# Altium integrated library Holtek Semiconductor Encoder Decoder.IntLib: 38 symbols
Pins are listed as number, name and electrical type; pins without a type are passive.

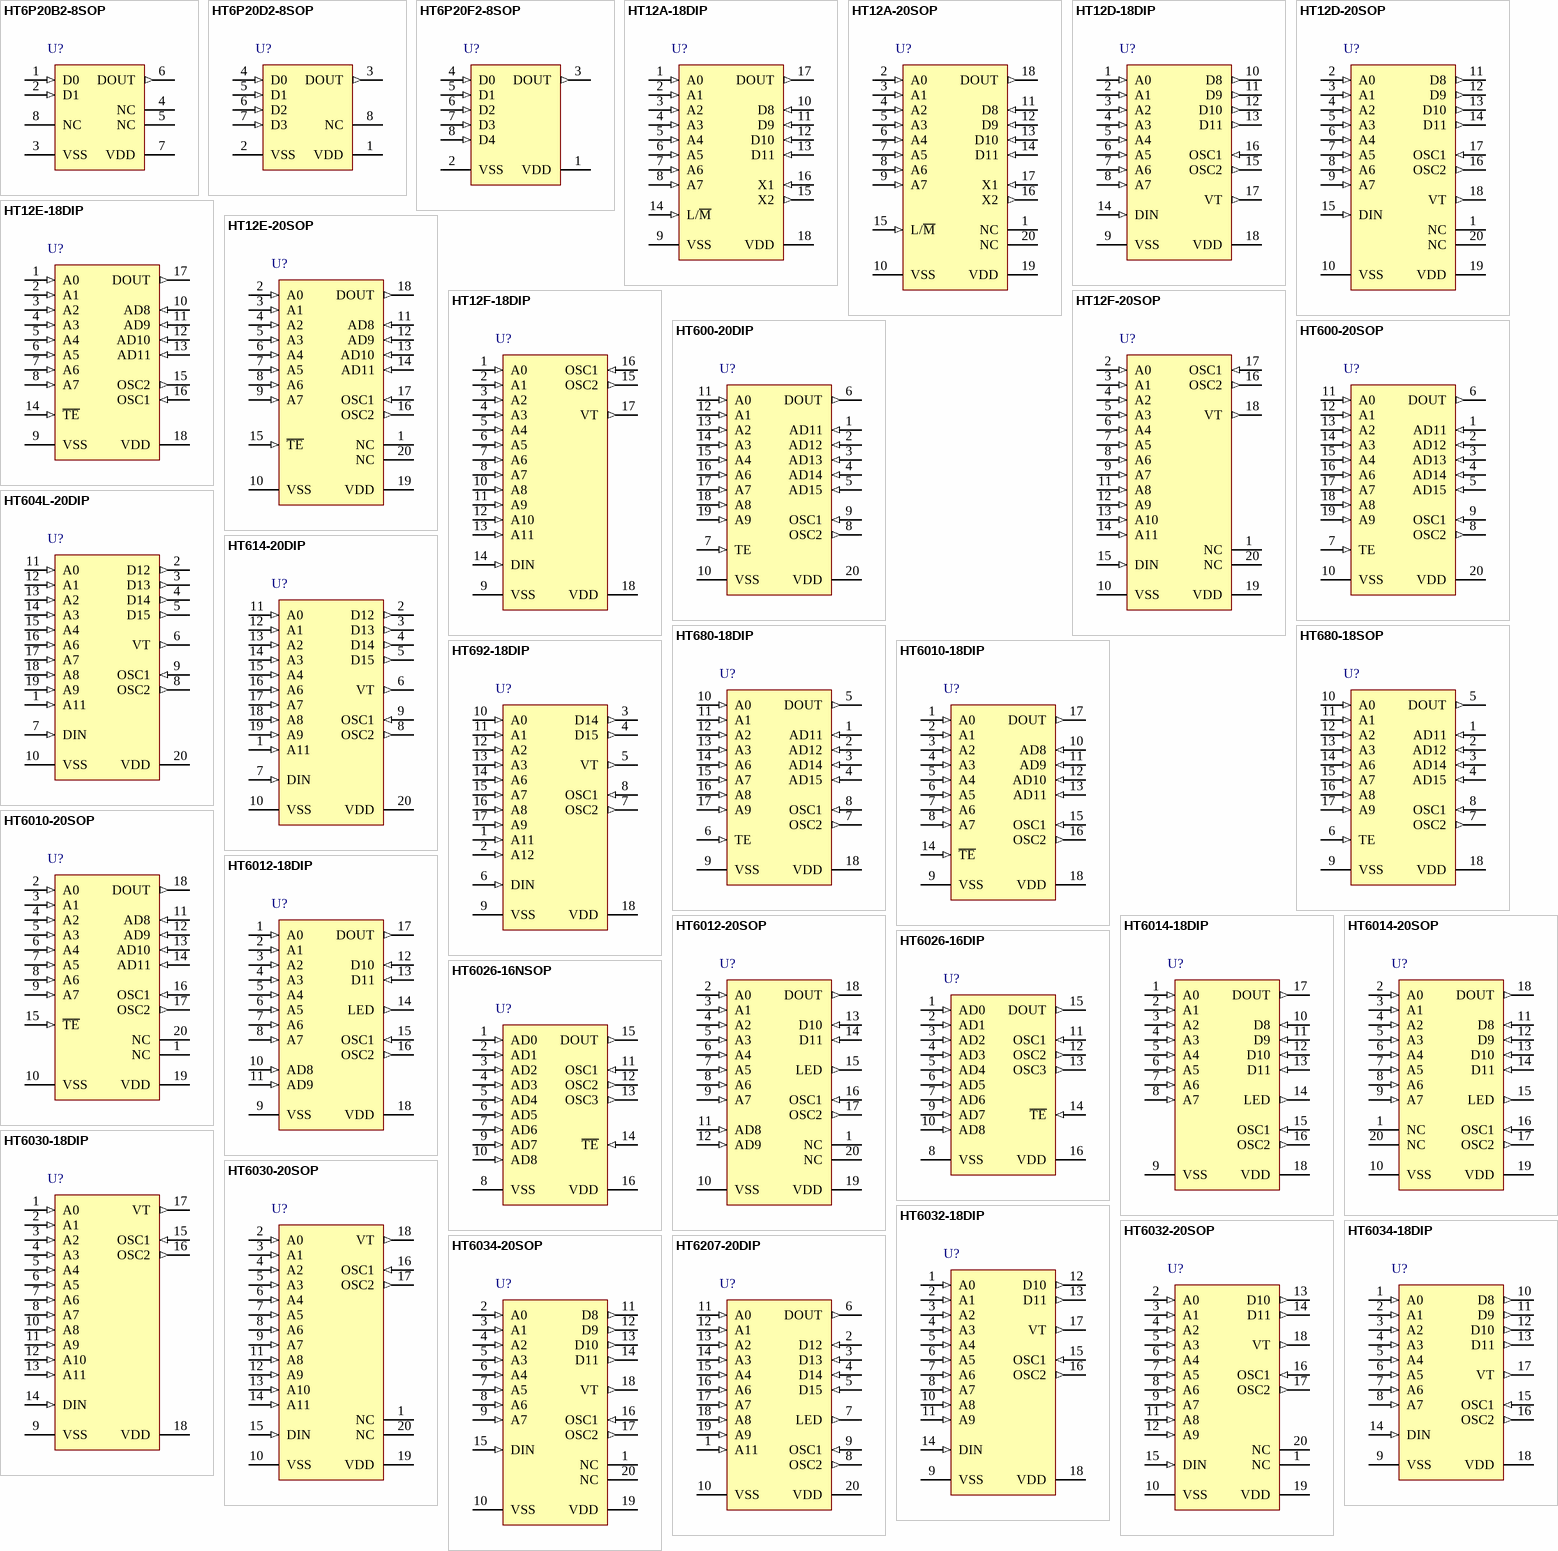
[diagram p0: symbols HT6P20B2-8SOP to HT6207-20DIP]

## HT6P20B2-8SOP
designator U?
Remote Control Encoder, 8-Pin SOP; DatasheetVersion: Rev1.00, Jun-2010; PackageVersion: 25/05/2010; PackageReference: 8SOP; PackageDescription: 8-Pin Small Outline Package, 150mil Wide, 1.27 mm Pitch; Code_JEDEC: MS-012; Code_IPC: SOIC127P600-8; ComponentLink1Description: Manufacturer URL; ComponentLink1URL: http://www.holtek.com/; ComponentLink2Description: Datasheet; ComponentLink2URL: http://www.holtek.com/pdf/consumer/6P20x2v100.pdf; ComponentLink3Description: Package Specification; ComponentLink3URL: http://www.holtek.com/english/literature/package.pdf
footprint 8SOP_N (SOIC, 8-Leads, Body 4.9x3.9mm, Pitch 1.27mm, IPC Medium Density)
footprint 8SOP_L (SOIC, 8-Leads, Body 4.9x3.9mm, Pitch 1.27mm, IPC High Density)
footprint 8SOP_M (SOIC, 8-Leads, Body 4.9x3.9mm, Pitch 1.27mm, IPC Low Density)
pins: 1 D0 (in), 2 D1 (in), 3 VSS (power), 4 NC, 5 NC, 6 DOUT (out), 7 VDD (power), 8 NC

## HT6P20D2-8SOP
designator U?
Remote Control Encoder, 8-Pin SOP; DatasheetVersion: Rev1.00, Jun-2010; PackageVersion: 25/05/2010; PackageReference: 8SOP; PackageDescription: 8-Pin Small Outline Package, 150mil Wide, 1.27 mm Pitch; Code_JEDEC: MS-012; Code_IPC: SOIC127P600-8; ComponentLink1Description: Manufacturer URL; ComponentLink1URL: http://www.holtek.com/; ComponentLink2Description: Datasheet; ComponentLink2URL: http://www.holtek.com/pdf/consumer/6P20x2v100.pdf; ComponentLink3Description: Package Specification; ComponentLink3URL: http://www.holtek.com/english/literature/package.pdf
footprint 8SOP_N (SOIC, 8-Leads, Body 4.9x3.9mm, Pitch 1.27mm, IPC Medium Density)
footprint 8SOP_L (SOIC, 8-Leads, Body 4.9x3.9mm, Pitch 1.27mm, IPC High Density)
footprint 8SOP_M (SOIC, 8-Leads, Body 4.9x3.9mm, Pitch 1.27mm, IPC Low Density)
pins: 1 VDD (power), 2 VSS (power), 3 DOUT (out), 4 D0 (in), 5 D1 (in), 6 D2 (in), 7 D3 (in), 8 NC

## HT6P20F2-8SOP
designator U?
Remote Control Encoder, 8-Pin SOP; DatasheetVersion: Rev1.00, Jun-2010; PackageVersion: 25/05/2010; PackageReference: 8SOP; PackageDescription: 8-Pin Small Outline Package, 150mil Wide, 1.27 mm Pitch; Code_JEDEC: MS-012; Code_IPC: SOIC127P600-8; ComponentLink1Description: Manufacturer URL; ComponentLink1URL: http://www.holtek.com/; ComponentLink2Description: Datasheet; ComponentLink2URL: http://www.holtek.com/pdf/consumer/6P20x2v100.pdf; ComponentLink3Description: Package Specification; ComponentLink3URL: http://www.holtek.com/english/literature/package.pdf
footprint 8SOP_N (SOIC, 8-Leads, Body 4.9x3.9mm, Pitch 1.27mm, IPC Medium Density)
footprint 8SOP_L (SOIC, 8-Leads, Body 4.9x3.9mm, Pitch 1.27mm, IPC High Density)
footprint 8SOP_M (SOIC, 8-Leads, Body 4.9x3.9mm, Pitch 1.27mm, IPC Low Density)
pins: 1 VDD (power), 2 VSS (power), 3 DOUT (out), 4 D0 (in), 5 D1 (in), 6 D2 (in), 7 D3 (in), 8 D4 (in)

## HT12A-18DIP
designator U?
212 Series of Encoders, 18-Pin DIP; DatasheetVersion: Rev1.20, Feb-2009; PackageVersion: 25/05/2010; PackageReference: 18DIP; PackageDescription: 18-Pin, Dual In-line Package, 300mil Width, Pitch 2.54 mm, Full Lead; Code_JEDEC: MS-001D; ComponentLink1Description: Manufacturer URL; ComponentLink1URL: http://www.holtek.com/; ComponentLink2Description: Datasheet; ComponentLink2URL: http://www.holtek.com/pdf/consumer/2_12ev120.pdf; ComponentLink3Description: Package Specification; ComponentLink3URL: http://www.holtek.com/english/literature/package.pdf
footprint 18DIP (DIP, 18-Leads, Row Spacing 7.62mm, Pitch 2.54mm, Body 22.9x6.6mm)
pins: 1 A0 (in), 2 A1 (in), 3 A2 (in), 4 A3 (in), 5 A4 (in), 6 A5 (in), 7 A6 (in), 8 A7 (in), 9 VSS (power), 10 D8 (in), 11 D9 (in), 12 D10 (in), 13 D11 (in), 14 L/~{M} (in), 15 X2 (out), 16 X1 (in), 17 DOUT (out), 18 VDD (power)

## HT12A-20SOP
designator U?
212 Series of Encoders, 20-Pin SOP; DatasheetVersion: Rev1.20, Feb-2009; PackageVersion: 25/05/2010; PackageReference: 20SOP; PackageDescription: 20-Pin Small Outline Package, 300mil Wide, 1.27 mm Pitch; Code_JEDEC: MS-013; Code_IPC: SOIC127P1030-20; ComponentLink1Description: Manufacturer URL; ComponentLink1URL: http://www.holtek.com/; ComponentLink2Description: Datasheet; ComponentLink2URL: http://www.holtek.com/pdf/consumer/2_12ev120.pdf; ComponentLink3Description: Package Specification; ComponentLink3URL: http://www.holtek.com/english/literature/package.pdf
footprint 20SOP_N (SOIC, 20-Leads, Body 12.8x7.1mm, Pitch 1.27mm, IPC Medium Density)
footprint 20SOP_L (SOIC, 20-Leads, Body 12.8x7.1mm, Pitch 1.27mm, IPC High Density)
footprint 20SOP_M (SOIC, 20-Leads, Body 12.8x7.1mm, Pitch 1.27mm, IPC Low Density)
pins: 1 NC, 2 A0 (in), 3 A1 (in), 4 A2 (in), 5 A3 (in), 6 A4 (in), 7 A5 (in), 8 A6 (in), 9 A7 (in), 10 VSS (power), 11 D8 (in), 12 D9 (in), 13 D10 (in), 14 D11 (in), 15 L/~{M} (in), 16 X2 (out), 17 X1 (in), 18 DOUT (out), 19 VDD (power), 20 NC

## HT12D-18DIP
designator U?
212 Series of Decoders, 18-Pin DIP; DatasheetVersion: Rev1.20, Feb-2009; PackageVersion: 25/05/2010; PackageReference: 18DIP; PackageDescription: 18-Pin, Dual In-line Package, 300mil Width, Pitch 2.54 mm, Full Lead; Code_JEDEC: MS-001D; ComponentLink1Description: Manufacturer URL; ComponentLink1URL: http://www.holtek.com/; ComponentLink2Description: Datasheet; ComponentLink2URL: http://www.holtek.com/pdf/consumer/2_12dv120.pdf; ComponentLink3Description: Package Specification; ComponentLink3URL: http://www.holtek.com/english/literature/package.pdf
footprint 18DIP (DIP, 18-Leads, Row Spacing 7.62mm, Pitch 2.54mm, Body 22.9x6.6mm)
pins: 1 A0 (in), 2 A1 (in), 3 A2 (in), 4 A3 (in), 5 A4 (in), 6 A5 (in), 7 A6 (in), 8 A7 (in), 9 VSS (power), 10 D8 (out), 11 D9 (out), 12 D10 (out), 13 D11 (out), 14 DIN (in), 15 OSC2 (out), 16 OSC1 (in), 17 VT (out), 18 VDD (power)

## HT12D-20SOP
designator U?
212 Series of Decoders, 20-Pin SOP; DatasheetVersion: Rev1.20, Feb-2009; PackageVersion: 25/05/2010; PackageReference: 20SOP; PackageDescription: 20-Pin Small Outline Package, 300mil Wide, 1.27 mm Pitch; Code_JEDEC: MS-013; Code_IPC: SOIC127P1030-20; ComponentLink1Description: Manufacturer URL; ComponentLink1URL: http://www.holtek.com/; ComponentLink2Description: Datasheet; ComponentLink2URL: http://www.holtek.com/pdf/consumer/2_12dv120.pdf; ComponentLink3Description: Package Specification; ComponentLink3URL: http://www.holtek.com/english/literature/package.pdf
footprint 20SOP_N (SOIC, 20-Leads, Body 12.8x7.1mm, Pitch 1.27mm, IPC Medium Density)
footprint 20SOP_L (SOIC, 20-Leads, Body 12.8x7.1mm, Pitch 1.27mm, IPC High Density)
footprint 20SOP_M (SOIC, 20-Leads, Body 12.8x7.1mm, Pitch 1.27mm, IPC Low Density)
pins: 1 NC, 2 A0 (in), 3 A1 (in), 4 A2 (in), 5 A3 (in), 6 A4 (in), 7 A5 (in), 8 A6 (in), 9 A7 (in), 10 VSS (power), 11 D8 (out), 12 D9 (out), 13 D10 (out), 14 D11 (out), 15 DIN (in), 16 OSC2 (out), 17 OSC1 (in), 18 VT (out), 19 VDD (power), 20 NC

## HT12E-18DIP
designator U?
212 Series of Encoders, 18-Pin DIP; DatasheetVersion: Rev1.20, Feb-2009; PackageVersion: 25/05/2010; PackageReference: 18DIP; PackageDescription: 18-Pin, Dual In-line Package, 300mil Width, Pitch 2.54 mm, Full Lead; Code_JEDEC: MS-001D; ComponentLink1Description: Manufacturer URL; ComponentLink1URL: http://www.holtek.com/; ComponentLink2Description: Datasheet; ComponentLink2URL: http://www.holtek.com/pdf/consumer/2_12ev120.pdf; ComponentLink3Description: Package Specification; ComponentLink3URL: http://www.holtek.com/english/literature/package.pdf
footprint 18DIP (DIP, 18-Leads, Row Spacing 7.62mm, Pitch 2.54mm, Body 22.9x6.6mm)
pins: 1 A0 (in), 2 A1 (in), 3 A2 (in), 4 A3 (in), 5 A4 (in), 6 A5 (in), 7 A6 (in), 8 A7 (in), 9 VSS (power), 10 AD8 (in), 11 AD9 (in), 12 AD10 (in), 13 AD11 (in), 14 ~{TE} (in), 15 OSC2 (out), 16 OSC1 (in), 17 DOUT (out), 18 VDD (power)

## HT12E-20SOP
designator U?
212 Series of Encoders, 20-Pin SOP; DatasheetVersion: Rev1.20, Feb-2009; PackageVersion: 25/05/2010; PackageReference: 20SOP; PackageDescription: 20-Pin Small Outline Package, 300mil Wide, 1.27 mm Pitch; Code_JEDEC: MS-013; Code_IPC: SOIC127P1030-20; ComponentLink1Description: Manufacturer URL; ComponentLink1URL: http://www.holtek.com/; ComponentLink2Description: Datasheet; ComponentLink2URL: http://www.holtek.com/pdf/consumer/2_12ev120.pdf; ComponentLink3Description: Package Specification; ComponentLink3URL: http://www.holtek.com/english/literature/package.pdf
footprint 20SOP_N (SOIC, 20-Leads, Body 12.8x7.1mm, Pitch 1.27mm, IPC Medium Density)
footprint 20SOP_L (SOIC, 20-Leads, Body 12.8x7.1mm, Pitch 1.27mm, IPC High Density)
footprint 20SOP_M (SOIC, 20-Leads, Body 12.8x7.1mm, Pitch 1.27mm, IPC Low Density)
pins: 1 NC, 2 A0 (in), 3 A1 (in), 4 A2 (in), 5 A3 (in), 6 A4 (in), 7 A5 (in), 8 A6 (in), 9 A7 (in), 10 VSS (power), 11 AD8 (in), 12 AD9 (in), 13 AD10 (in), 14 AD11 (in), 15 ~{TE} (in), 16 OSC2 (out), 17 OSC1 (in), 18 DOUT (out), 19 VDD (power), 20 NC

## HT12F-18DIP
designator U?
212 Series of Decoders, 18-Pin DIP; DatasheetVersion: Rev1.20, Feb-2009; PackageVersion: 25/05/2010; PackageReference: 18DIP; PackageDescription: 18-Pin, Dual In-line Package, 300mil Width, Pitch 2.54 mm, Full Lead; Code_JEDEC: MS-001D; ComponentLink1Description: Manufacturer URL; ComponentLink1URL: http://www.holtek.com/; ComponentLink2Description: Datasheet; ComponentLink2URL: http://www.holtek.com/pdf/consumer/2_12dv120.pdf; ComponentLink3Description: Package Specification; ComponentLink3URL: http://www.holtek.com/english/literature/package.pdf
footprint 18DIP (DIP, 18-Leads, Row Spacing 7.62mm, Pitch 2.54mm, Body 22.9x6.6mm)
pins: 1 A0 (in), 2 A1 (in), 3 A2 (in), 4 A3 (in), 5 A4 (in), 6 A5 (in), 7 A6 (in), 8 A7 (in), 9 VSS (power), 10 A8 (in), 11 A9 (in), 12 A10 (in), 13 A11 (in), 14 DIN (in), 15 OSC2 (out), 16 OSC1 (in), 17 VT (out), 18 VDD (power)

## HT12F-20SOP
designator U?
212 Series of Decoders, 20-Pin SOP; DatasheetVersion: Rev1.20, Feb-2009; PackageVersion: 25/05/2010; PackageReference: 20SOP; PackageDescription: 20-Pin Small Outline Package, 300mil Wide, 1.27 mm Pitch; Code_JEDEC: MS-013; Code_IPC: SOIC127P1030-20; ComponentLink1Description: Manufacturer URL; ComponentLink1URL: http://www.holtek.com/; ComponentLink2Description: Datasheet; ComponentLink2URL: http://www.holtek.com/pdf/consumer/2_12dv120.pdf; ComponentLink3Description: Package Specification; ComponentLink3URL: http://www.holtek.com/english/literature/package.pdf
footprint 20SOP_N (SOIC, 20-Leads, Body 12.8x7.1mm, Pitch 1.27mm, IPC Medium Density)
footprint 20SOP_L (SOIC, 20-Leads, Body 12.8x7.1mm, Pitch 1.27mm, IPC High Density)
footprint 20SOP_M (SOIC, 20-Leads, Body 12.8x7.1mm, Pitch 1.27mm, IPC Low Density)
pins: 1 NC, 2 A0 (in), 3 A1 (in), 4 A2 (in), 5 A3 (in), 6 A4 (in), 7 A5 (in), 8 A6 (in), 9 A7 (in), 10 VSS (power), 11 A8 (in), 12 A9 (in), 13 A10 (in), 14 A11 (in), 15 DIN (in), 16 OSC2 (out), 17 OSC1 (in), 18 VT (out), 19 VDD (power), 20 NC

## HT600-20DIP
designator U?
318 Series of Encoders, 20-Pin DIP; DatasheetVersion: Rev1.20, Feb-2009; PackageVersion: 25/05/2010; PackageReference: 20DIP; PackageDescription: 20-Pin, Dual In-line Package, 300mil Width, Pitch 2.54 mm, Full Lead; Code_JEDEC: MO-095A; ComponentLink1Description: Manufacturer URL; ComponentLink1URL: http://www.holtek.com/; ComponentLink2Description: Datasheet; ComponentLink2URL: http://www.holtek.com/pdf/consumer/3_18ev120.pdf; ComponentLink3Description: Package Specification; ComponentLink3URL: http://www.holtek.com/english/literature/package.pdf
footprint 20DIP (DIP, 20-Leads, Row Spacing 7.62mm, Pitch 2.54mm, Body 24.5x7.2mm)
pins: 1 AD11 (in), 2 AD12 (in), 3 AD13 (in), 4 AD14 (in), 5 AD15 (in), 6 DOUT (out), 7 TE (in), 8 OSC2 (out), 9 OSC1 (in), 10 VSS (power), 11 A0 (in), 12 A1 (in), 13 A2 (in), 14 A3 (in), 15 A4 (in), 16 A6 (in), 17 A7 (in), 18 A8 (in), 19 A9 (in), 20 VDD (power)

## HT600-20SOP
designator U?
318 Series of Encoders, 20-Pin SOP; DatasheetVersion: Rev1.20, Feb-2009; PackageVersion: 25/05/2010; PackageReference: 20SOP; PackageDescription: 20-Pin Small Outline Package, 300mil Wide, 1.27 mm Pitch; Code_JEDEC: MS-013; Code_IPC: SOIC127P1030-20; ComponentLink1Description: Manufacturer URL; ComponentLink1URL: http://www.holtek.com/; ComponentLink2Description: Datasheet; ComponentLink2URL: http://www.holtek.com/pdf/consumer/3_18ev120.pdf; ComponentLink3Description: Package Specification; ComponentLink3URL: http://www.holtek.com/english/literature/package.pdf
footprint 20SOP_N (SOIC, 20-Leads, Body 12.8x7.1mm, Pitch 1.27mm, IPC Medium Density)
footprint 20SOP_L (SOIC, 20-Leads, Body 12.8x7.1mm, Pitch 1.27mm, IPC High Density)
footprint 20SOP_M (SOIC, 20-Leads, Body 12.8x7.1mm, Pitch 1.27mm, IPC Low Density)
pins: 1 AD11 (in), 2 AD12 (in), 3 AD13 (in), 4 AD14 (in), 5 AD15 (in), 6 DOUT (out), 7 TE (in), 8 OSC2 (out), 9 OSC1 (in), 10 VSS (power), 11 A0 (in), 12 A1 (in), 13 A2 (in), 14 A3 (in), 15 A4 (in), 16 A6 (in), 17 A7 (in), 18 A8 (in), 19 A9 (in), 20 VDD (power)

## HT604L-20DIP
designator U?
318 Series of Decoders, 20-Pin DIP; DatasheetVersion: Rev1.20, Feb-2009; PackageVersion: 25/05/2010; PackageReference: 20DIP; PackageDescription: 20-Pin, Dual In-line Package, 300mil Width, Pitch 2.54 mm, Full Lead; Code_JEDEC: MO-095A; ComponentLink1Description: Manufacturer URL; ComponentLink1URL: http://www.holtek.com/; ComponentLink2Description: Datasheet; ComponentLink2URL: http://www.holtek.com/pdf/consumer/3_18dv120.pdf; ComponentLink3Description: Package Specification; ComponentLink3URL: http://www.holtek.com/english/literature/package.pdf
footprint 20DIP (DIP, 20-Leads, Row Spacing 7.62mm, Pitch 2.54mm, Body 24.5x7.2mm)
pins: 1 A11 (in), 2 D12 (out), 3 D13 (out), 4 D14 (out), 5 D15 (out), 6 VT (out), 7 DIN (in), 8 OSC2 (out), 9 OSC1 (in), 10 VSS (power), 11 A0 (in), 12 A1 (in), 13 A2 (in), 14 A3 (in), 15 A4 (in), 16 A6 (in), 17 A7 (in), 18 A8 (in), 19 A9 (in), 20 VDD (power)

## HT614-20DIP
designator U?
318 Series of Decoders, 20-Pin DIP; DatasheetVersion: Rev1.20, Feb-2009; PackageVersion: 25/05/2010; PackageReference: 20DIP; PackageDescription: 20-Pin, Dual In-line Package, 300mil Width, Pitch 2.54 mm, Full Lead; Code_JEDEC: MO-095A; ComponentLink1Description: Manufacturer URL; ComponentLink1URL: http://www.holtek.com/; ComponentLink2Description: Datasheet; ComponentLink2URL: http://www.holtek.com/pdf/consumer/3_18dv120.pdf; ComponentLink3Description: Package Specification; ComponentLink3URL: http://www.holtek.com/english/literature/package.pdf
footprint 20DIP (DIP, 20-Leads, Row Spacing 7.62mm, Pitch 2.54mm, Body 24.5x7.2mm)
pins: 1 A11 (in), 2 D12 (out), 3 D13 (out), 4 D14 (out), 5 D15 (out), 6 VT (out), 7 DIN (in), 8 OSC2 (out), 9 OSC1 (in), 10 VSS (power), 11 A0 (in), 12 A1 (in), 13 A2 (in), 14 A3 (in), 15 A4 (in), 16 A6 (in), 17 A7 (in), 18 A8 (in), 19 A9 (in), 20 VDD (power)

## HT680-18DIP
designator U?
318 Series of Encoders, 18-Pin DIP; DatasheetVersion: Rev1.20, Feb-2009; PackageVersion: 25/05/2010; PackageReference: 18DIP; PackageDescription: 18-Pin, Dual In-line Package, 300mil Width, Pitch 2.54 mm, Full Lead; Code_JEDEC: MS-001D; ComponentLink1Description: Manufacturer URL; ComponentLink1URL: http://www.holtek.com/; ComponentLink2Description: Datasheet; ComponentLink2URL: http://www.holtek.com/pdf/consumer/3_18ev120.pdf; ComponentLink3Description: Package Specification; ComponentLink3URL: http://www.holtek.com/english/literature/package.pdf
footprint 18DIP (DIP, 18-Leads, Row Spacing 7.62mm, Pitch 2.54mm, Body 22.9x6.6mm)
pins: 1 AD11 (in), 2 AD12 (in), 3 AD14 (in), 4 AD15 (in), 5 DOUT (out), 6 TE (in), 7 OSC2 (out), 8 OSC1 (in), 9 VSS (power), 10 A0 (in), 11 A1 (in), 12 A2 (in), 13 A3 (in), 14 A6 (in), 15 A7 (in), 16 A8 (in), 17 A9 (in), 18 VDD (power)

## HT680-18SOP
designator U?
318 Series of Encoders, 18-Pin SOP; DatasheetVersion: Rev1.20, Feb-2009; PackageVersion: 25/05/2010; PackageReference: 18SOP; PackageDescription: 18-Pin Small Outline Package, 300mil Wide, 1.27 mm Pitch; Code_JEDEC: MS-013; ComponentLink1Description: Manufacturer URL; ComponentLink1URL: http://www.holtek.com/; ComponentLink2Description: Datasheet; ComponentLink2URL: http://www.holtek.com/pdf/consumer/3_18ev120.pdf; ComponentLink3Description: Package Specification; ComponentLink3URL: http://www.holtek.com/english/literature/package.pdf
footprint 18SOP_N (SOIC, 18-Leads, Body 11.6x7.1mm, Pitch 1.27mm, IPC Medium Density)
footprint 18SOP_L (SOIC, 18-Leads, Body 11.6x7.1mm, Pitch 1.27mm, IPC High Density)
footprint 18SOP_M (SOIC, 18-Leads, Body 11.6x7.1mm, Pitch 1.27mm, IPC Low Density)
pins: 1 AD11 (in), 2 AD12 (in), 3 AD14 (in), 4 AD15 (in), 5 DOUT (out), 6 TE (in), 7 OSC2 (out), 8 OSC1 (in), 9 VSS (power), 10 A0 (in), 11 A1 (in), 12 A2 (in), 13 A3 (in), 14 A6 (in), 15 A7 (in), 16 A8 (in), 17 A9 (in), 18 VDD (power)

## HT692-18DIP
designator U?
318 Series of Decoders, 18-Pin DIP; DatasheetVersion: Rev1.20, Feb-2009; PackageVersion: 25/05/2010; PackageReference: 18DIP; PackageDescription: 18-Pin, Dual In-line Package, 300mil Width, Pitch 2.54 mm, Full Lead; Code_JEDEC: MS-001D; ComponentLink1Description: Manufacturer URL; ComponentLink1URL: http://www.holtek.com/; ComponentLink2Description: Datasheet; ComponentLink2URL: http://www.holtek.com/pdf/consumer/3_18dv120.pdf; ComponentLink3Description: Package Specification; ComponentLink3URL: http://www.holtek.com/english/literature/package.pdf
footprint 18DIP (DIP, 18-Leads, Row Spacing 7.62mm, Pitch 2.54mm, Body 22.9x6.6mm)
pins: 1 A11 (in), 2 A12 (in), 3 D14 (out), 4 D15 (out), 5 VT (out), 6 DIN (in), 7 OSC2 (out), 8 OSC1 (in), 9 VSS (power), 10 A0 (in), 11 A1 (in), 12 A2 (in), 13 A3 (in), 14 A6 (in), 15 A7 (in), 16 A8 (in), 17 A9 (in), 18 VDD (power)

## HT6010-18DIP
designator U?
312 Series of Encoders, 18-Pin DIP; DatasheetVersion: Rev1.30, Feb-2009; PackageVersion: 25/05/2010; PackageReference: 18DIP; PackageDescription: 18-Pin, Dual In-line Package, 300mil Width, Pitch 2.54 mm, Full Lead; Code_JEDEC: MS-001D; ComponentLink1Description: Manufacturer URL; ComponentLink1URL: http://www.holtek.com/; ComponentLink2Description: Datasheet; ComponentLink2URL: http://www.holtek.com/pdf/consumer/3_12ev130.pdf; ComponentLink3Description: Package Specification; ComponentLink3URL: http://www.holtek.com/english/literature/package.pdf
footprint 18DIP (DIP, 18-Leads, Row Spacing 7.62mm, Pitch 2.54mm, Body 22.9x6.6mm)
pins: 1 A0 (in), 2 A1 (in), 3 A2 (in), 4 A3 (in), 5 A4 (in), 6 A5 (in), 7 A6 (in), 8 A7 (in), 9 VSS (power), 10 AD8 (in), 11 AD9 (in), 12 AD10 (in), 13 AD11 (in), 14 ~{TE} (in), 15 OSC1 (in), 16 OSC2 (out), 17 DOUT (out), 18 VDD (power)

## HT6010-20SOP
designator U?
312 Series of Encoders, 20-Pin SOP; DatasheetVersion: Rev1.30, Feb-2009; PackageVersion: 25/05/2010; PackageReference: 20SOP; PackageDescription: 20-Pin Small Outline Package, 300mil Wide, 1.27 mm Pitch; Code_JEDEC: MS-013; Code_IPC: SOIC127P1030-20; ComponentLink1Description: Manufacturer URL; ComponentLink1URL: http://www.holtek.com/; ComponentLink2Description: Datasheet; ComponentLink2URL: http://www.holtek.com/pdf/consumer/3_12ev130.pdf; ComponentLink3Description: Package Specification; ComponentLink3URL: http://www.holtek.com/english/literature/package.pdf
footprint 20SOP_N (SOIC, 20-Leads, Body 12.8x7.1mm, Pitch 1.27mm, IPC Medium Density)
footprint 20SOP_L (SOIC, 20-Leads, Body 12.8x7.1mm, Pitch 1.27mm, IPC High Density)
footprint 20SOP_M (SOIC, 20-Leads, Body 12.8x7.1mm, Pitch 1.27mm, IPC Low Density)
pins: 1 NC, 2 A0 (in), 3 A1 (in), 4 A2 (in), 5 A3 (in), 6 A4 (in), 7 A5 (in), 8 A6 (in), 9 A7 (in), 10 VSS (power), 11 AD8 (in), 12 AD9 (in), 13 AD10 (in), 14 AD11 (in), 15 ~{TE} (in), 16 OSC1 (in), 17 OSC2 (out), 18 DOUT (out), 19 VDD (power), 20 NC

## HT6012-18DIP
designator U?
312 Series of Encoders, 18-Pin DIP; DatasheetVersion: Rev1.30, Feb-2009; PackageVersion: 25/05/2010; PackageReference: 18DIP; PackageDescription: 18-Pin, Dual In-line Package, 300mil Width, Pitch 2.54 mm, Full Lead; Code_JEDEC: MS-001D; ComponentLink1Description: Manufacturer URL; ComponentLink1URL: http://www.holtek.com/; ComponentLink2Description: Datasheet; ComponentLink2URL: http://www.holtek.com/pdf/consumer/3_12ev130.pdf; ComponentLink3Description: Package Specification; ComponentLink3URL: http://www.holtek.com/english/literature/package.pdf
footprint 18DIP (DIP, 18-Leads, Row Spacing 7.62mm, Pitch 2.54mm, Body 22.9x6.6mm)
pins: 1 A0 (in), 2 A1 (in), 3 A2 (in), 4 A3 (in), 5 A4 (in), 6 A5 (in), 7 A6 (in), 8 A7 (in), 9 VSS (power), 10 AD8 (in), 11 AD9 (in), 12 D10 (in), 13 D11 (in), 14 LED (out), 15 OSC1 (in), 16 OSC2 (out), 17 DOUT (out), 18 VDD (power)

## HT6012-20SOP
designator U?
312 Series of Encoders, 20-Pin SOP; DatasheetVersion: Rev1.30, Feb-2009; PackageVersion: 25/05/2010; PackageReference: 20SOP; PackageDescription: 20-Pin Small Outline Package, 300mil Wide, 1.27 mm Pitch; Code_JEDEC: MS-013; Code_IPC: SOIC127P1030-20; ComponentLink1Description: Manufacturer URL; ComponentLink1URL: http://www.holtek.com/; ComponentLink2Description: Datasheet; ComponentLink2URL: http://www.holtek.com/pdf/consumer/3_12ev130.pdf; ComponentLink3Description: Package Specification; ComponentLink3URL: http://www.holtek.com/english/literature/package.pdf
footprint 20SOP_N (SOIC, 20-Leads, Body 12.8x7.1mm, Pitch 1.27mm, IPC Medium Density)
footprint 20SOP_L (SOIC, 20-Leads, Body 12.8x7.1mm, Pitch 1.27mm, IPC High Density)
footprint 20SOP_M (SOIC, 20-Leads, Body 12.8x7.1mm, Pitch 1.27mm, IPC Low Density)
pins: 1 NC, 2 A0 (in), 3 A1 (in), 4 A2 (in), 5 A3 (in), 6 A4 (in), 7 A5 (in), 8 A6 (in), 9 A7 (in), 10 VSS (power), 11 AD8 (in), 12 AD9 (in), 13 D10 (in), 14 D11 (in), 15 LED (out), 16 OSC1 (in), 17 OSC2 (out), 18 DOUT (out), 19 VDD (power), 20 NC

## HT6014-18DIP
designator U?
312 Series of Encoders, 18-Pin DIP; DatasheetVersion: Rev1.30, Feb-2009; PackageVersion: 25/05/2010; PackageReference: 18DIP; PackageDescription: 18-Pin, Dual In-line Package, 300mil Width, Pitch 2.54 mm, Full Lead; Code_JEDEC: MS-001D; ComponentLink1Description: Manufacturer URL; ComponentLink1URL: http://www.holtek.com/; ComponentLink2Description: Datasheet; ComponentLink2URL: http://www.holtek.com/pdf/consumer/3_12ev130.pdf; ComponentLink3Description: Package Specification; ComponentLink3URL: http://www.holtek.com/english/literature/package.pdf
footprint 18DIP (DIP, 18-Leads, Row Spacing 7.62mm, Pitch 2.54mm, Body 22.9x6.6mm)
pins: 1 A0 (in), 2 A1 (in), 3 A2 (in), 4 A3 (in), 5 A4 (in), 6 A5 (in), 7 A6 (in), 8 A7 (in), 9 VSS (power), 10 D8 (in), 11 D9 (in), 12 D10 (in), 13 D11 (in), 14 LED (out), 15 OSC1 (in), 16 OSC2 (out), 17 DOUT (out), 18 VDD (power)

## HT6014-20SOP
designator U?
312 Series of Encoders, 20-Pin SOP; DatasheetVersion: Rev1.30, Feb-2009; PackageVersion: 25/05/2010; PackageReference: 20SOP; PackageDescription: 20-Pin Small Outline Package, 300mil Wide, 1.27 mm Pitch; Code_JEDEC: MS-013; Code_IPC: SOIC127P1030-20; ComponentLink1Description: Manufacturer URL; ComponentLink1URL: http://www.holtek.com/; ComponentLink2Description: Datasheet; ComponentLink2URL: http://www.holtek.com/pdf/consumer/3_12ev130.pdf; ComponentLink3Description: Package Specification; ComponentLink3URL: http://www.holtek.com/english/literature/package.pdf
footprint 20SOP_N (SOIC, 20-Leads, Body 12.8x7.1mm, Pitch 1.27mm, IPC Medium Density)
footprint 20SOP_L (SOIC, 20-Leads, Body 12.8x7.1mm, Pitch 1.27mm, IPC High Density)
footprint 20SOP_M (SOIC, 20-Leads, Body 12.8x7.1mm, Pitch 1.27mm, IPC Low Density)
pins: 1 NC, 2 A0 (in), 3 A1 (in), 4 A2 (in), 5 A3 (in), 6 A4 (in), 7 A5 (in), 8 A6 (in), 9 A7 (in), 10 VSS (power), 11 D8 (in), 12 D9 (in), 13 D10 (in), 14 D11 (in), 15 LED (out), 16 OSC1 (in), 17 OSC2 (out), 18 DOUT (out), 19 VDD (power), 20 NC

## HT6026-16DIP
designator U?
Remote Control Encoder, 16-Pin DIP; DatasheetVersion: Rev1.10, Feb-2009; PackageVersion: 25/05/2010; PackageReference: 16DIP; PackageDescription: 16-Pin, Dual In-line Package, 300mil Width, Pitch 2.54 mm, Full Lead; Code_JEDEC: MS-001D; ComponentLink1Description: Manufacturer URL; ComponentLink1URL: http://www.holtek.com/; ComponentLink2Description: Datasheet; ComponentLink2URL: http://www.holtek.com/pdf/consumer/6026v110.pdf; ComponentLink3Description: Package Specification; ComponentLink3URL: http://www.holtek.com/english/literature/package.pdf
footprint 16DIP (DIP, 16-Leads, Row Spacing 7.62mm, Pitch 2.54mm, Body 21.1x6.6mm)
pins: 1 AD0 (in), 2 AD1 (in), 3 AD2 (in), 4 AD3 (in), 5 AD4 (in), 6 AD5 (in), 7 AD6 (in), 8 VSS (power), 9 AD7 (in), 10 AD8 (in), 11 OSC1 (in), 12 OSC2 (out), 13 OSC3 (out), 14 ~{TE} (in), 15 DOUT (out), 16 VDD (power)

## HT6026-16NSOP
designator U?
Remote Control Encoder, 16-Pin NSOP; DatasheetVersion: Rev1.10, Feb-2009; PackageVersion: 25/05/2010; PackageReference: 16NSOP; PackageDescription: 16-Pin Narrow Small Outline Package, 150mil Wide, 1.27 mm Pitch; ComponentLink1Description: Manufacturer URL; ComponentLink1URL: http://www.holtek.com/; ComponentLink2Description: Datasheet; ComponentLink2URL: http://www.holtek.com/pdf/consumer/6026v110.pdf; ComponentLink3Description: Package Specification; ComponentLink3URL: http://www.holtek.com/english/literature/package.pdf
footprint 16NSOP_N (SOIC, 16-Leads, Body 10.01x3.9mm, Pitch 1.27mm, IPC Medium Density)
footprint 16NSOP_L (SOIC, 16-Leads, Body 10.01x3.9mm, Pitch 1.27mm, IPC High Density)
footprint 16NSOP_M (SOIC, 16-Leads, Body 10.01x3.9mm, Pitch 1.27mm, IPC Low Density)
pins: 1 AD0 (in), 2 AD1 (in), 3 AD2 (in), 4 AD3 (in), 5 AD4 (in), 6 AD5 (in), 7 AD6 (in), 8 VSS (power), 9 AD7 (in), 10 AD8 (in), 11 OSC1 (in), 12 OSC2 (out), 13 OSC3 (out), 14 ~{TE} (in), 15 DOUT (out), 16 VDD (power)

## HT6030-18DIP
designator U?
312 Series of Decoders, 18-Pin DIP; DatasheetVersion: Rev1.30, Feb-2009; PackageVersion: 25/05/2010; PackageReference: 18DIP; PackageDescription: 18-Pin, Dual In-line Package, 300mil Width, Pitch 2.54 mm, Full Lead; Code_JEDEC: MS-001D; ComponentLink1Description: Manufacturer URL; ComponentLink1URL: http://www.holtek.com/; ComponentLink2Description: Datasheet; ComponentLink2URL: http://www.holtek.com/pdf/consumer/3_12dv130.pdf; ComponentLink3Description: Package Specification; ComponentLink3URL: http://www.holtek.com/english/literature/package.pdf
footprint 18DIP (DIP, 18-Leads, Row Spacing 7.62mm, Pitch 2.54mm, Body 22.9x6.6mm)
pins: 1 A0 (in), 2 A1 (in), 3 A2 (in), 4 A3 (in), 5 A4 (in), 6 A5 (in), 7 A6 (in), 8 A7 (in), 9 VSS (power), 10 A8 (in), 11 A9 (in), 12 A10 (in), 13 A11 (in), 14 DIN (in), 15 OSC1 (in), 16 OSC2 (out), 17 VT (out), 18 VDD (power)

## HT6030-20SOP
designator U?
312 Series of Decoders, 20-Pin SOP; DatasheetVersion: Rev1.30, Feb-2009; PackageVersion: 25/05/2010; PackageReference: 20SOP; PackageDescription: 20-Pin Small Outline Package, 300mil Wide, 1.27 mm Pitch; Code_JEDEC: MS-013; Code_IPC: SOIC127P1030-20; ComponentLink1Description: Manufacturer URL; ComponentLink1URL: http://www.holtek.com/; ComponentLink2Description: Datasheet; ComponentLink2URL: http://www.holtek.com/pdf/consumer/3_12dv130.pdf; ComponentLink3Description: Package Specification; ComponentLink3URL: http://www.holtek.com/english/literature/package.pdf
footprint 20SOP_N (SOIC, 20-Leads, Body 12.8x7.1mm, Pitch 1.27mm, IPC Medium Density)
footprint 20SOP_L (SOIC, 20-Leads, Body 12.8x7.1mm, Pitch 1.27mm, IPC High Density)
footprint 20SOP_M (SOIC, 20-Leads, Body 12.8x7.1mm, Pitch 1.27mm, IPC Low Density)
pins: 1 NC, 2 A0 (in), 3 A1 (in), 4 A2 (in), 5 A3 (in), 6 A4 (in), 7 A5 (in), 8 A6 (in), 9 A7 (in), 10 VSS (power), 11 A8 (in), 12 A9 (in), 13 A10 (in), 14 A11 (in), 15 DIN (in), 16 OSC1 (in), 17 OSC2 (out), 18 VT (out), 19 VDD (power), 20 NC

## HT6032-18DIP
designator U?
312 Series of Decoders, 18-Pin DIP; DatasheetVersion: Rev1.30, Feb-2009; PackageVersion: 25/05/2010; PackageReference: 18DIP; PackageDescription: 18-Pin, Dual In-line Package, 300mil Width, Pitch 2.54 mm, Full Lead; Code_JEDEC: MS-001D; ComponentLink1Description: Manufacturer URL; ComponentLink1URL: http://www.holtek.com/; ComponentLink2Description: Datasheet; ComponentLink2URL: http://www.holtek.com/pdf/consumer/3_12dv130.pdf; ComponentLink3Description: Package Specification; ComponentLink3URL: http://www.holtek.com/english/literature/package.pdf
footprint 18DIP (DIP, 18-Leads, Row Spacing 7.62mm, Pitch 2.54mm, Body 22.9x6.6mm)
pins: 1 A0 (in), 2 A1 (in), 3 A2 (in), 4 A3 (in), 5 A4 (in), 6 A5 (in), 7 A6 (in), 8 A7 (in), 9 VSS (power), 10 A8 (in), 11 A9 (in), 12 D10 (out), 13 D11 (out), 14 DIN (in), 15 OSC1 (in), 16 OSC2 (out), 17 VT (out), 18 VDD (power)

## HT6032-20SOP
designator U?
312 Series of Decoders, 20-Pin SOP; DatasheetVersion: Rev1.30, Feb-2009; PackageVersion: 25/05/2010; PackageReference: 20SOP; PackageDescription: 20-Pin Small Outline Package, 300mil Wide, 1.27 mm Pitch; Code_JEDEC: MS-013; Code_IPC: SOIC127P1030-20; ComponentLink1Description: Manufacturer URL; ComponentLink1URL: http://www.holtek.com/; ComponentLink2Description: Datasheet; ComponentLink2URL: http://www.holtek.com/pdf/consumer/3_12dv130.pdf; ComponentLink3Description: Package Specification; ComponentLink3URL: http://www.holtek.com/english/literature/package.pdf
footprint 20SOP_N (SOIC, 20-Leads, Body 12.8x7.1mm, Pitch 1.27mm, IPC Medium Density)
footprint 20SOP_L (SOIC, 20-Leads, Body 12.8x7.1mm, Pitch 1.27mm, IPC High Density)
footprint 20SOP_M (SOIC, 20-Leads, Body 12.8x7.1mm, Pitch 1.27mm, IPC Low Density)
pins: 1 NC, 2 A0 (in), 3 A1 (in), 4 A2 (in), 5 A3 (in), 6 A4 (in), 7 A5 (in), 8 A6 (in), 9 A7 (in), 10 VSS (power), 11 A8 (in), 12 A9 (in), 13 D10 (out), 14 D11 (out), 15 DIN (in), 16 OSC1 (in), 17 OSC2 (out), 18 VT (out), 19 VDD (power), 20 NC

## HT6034-18DIP
designator U?
312 Series of Decoders, 18-Pin DIP; DatasheetVersion: Rev1.30, Feb-2009; PackageVersion: 25/05/2010; PackageReference: 18DIP; PackageDescription: 18-Pin, Dual In-line Package, 300mil Width, Pitch 2.54 mm, Full Lead; Code_JEDEC: MS-001D; ComponentLink1Description: Manufacturer URL; ComponentLink1URL: http://www.holtek.com/; ComponentLink2Description: Datasheet; ComponentLink2URL: http://www.holtek.com/pdf/consumer/3_12dv130.pdf; ComponentLink3Description: Package Specification; ComponentLink3URL: http://www.holtek.com/english/literature/package.pdf
footprint 18DIP (DIP, 18-Leads, Row Spacing 7.62mm, Pitch 2.54mm, Body 22.9x6.6mm)
pins: 1 A0 (in), 2 A1 (in), 3 A2 (in), 4 A3 (in), 5 A4 (in), 6 A5 (in), 7 A6 (in), 8 A7 (in), 9 VSS (power), 10 D8 (out), 11 D9 (out), 12 D10 (out), 13 D11 (out), 14 DIN (in), 15 OSC1 (in), 16 OSC2 (out), 17 VT (out), 18 VDD (power)

## HT6034-20SOP
designator U?
312 Series of Decoders, 20-Pin SOP; DatasheetVersion: Rev1.30, Feb-2009; PackageVersion: 25/05/2010; PackageReference: 20SOP; PackageDescription: 20-Pin Small Outline Package, 300mil Wide, 1.27 mm Pitch; Code_JEDEC: MS-013; Code_IPC: SOIC127P1030-20; ComponentLink1Description: Manufacturer URL; ComponentLink1URL: http://www.holtek.com/; ComponentLink2Description: Datasheet; ComponentLink2URL: http://www.holtek.com/pdf/consumer/3_12dv130.pdf; ComponentLink3Description: Package Specification; ComponentLink3URL: http://www.holtek.com/english/literature/package.pdf
footprint 20SOP_N (SOIC, 20-Leads, Body 12.8x7.1mm, Pitch 1.27mm, IPC Medium Density)
footprint 20SOP_L (SOIC, 20-Leads, Body 12.8x7.1mm, Pitch 1.27mm, IPC High Density)
footprint 20SOP_M (SOIC, 20-Leads, Body 12.8x7.1mm, Pitch 1.27mm, IPC Low Density)
pins: 1 NC, 2 A0 (in), 3 A1 (in), 4 A2 (in), 5 A3 (in), 6 A4 (in), 7 A5 (in), 8 A6 (in), 9 A7 (in), 10 VSS (power), 11 D8 (out), 12 D9 (out), 13 D10 (out), 14 D11 (out), 15 DIN (in), 16 OSC1 (in), 17 OSC2 (out), 18 VT (out), 19 VDD (power), 20 NC

## HT6207-20DIP
designator U?
318 Series of Encoders, 20-Pin DIP; DatasheetVersion: Rev1.20, Feb-2009; PackageVersion: 25/05/2010; PackageReference: 20DIP; PackageDescription: 20-Pin, Dual In-line Package, 300mil Width, Pitch 2.54 mm, Full Lead; Code_JEDEC: MO-095A; ComponentLink1Description: Manufacturer URL; ComponentLink1URL: http://www.holtek.com/; ComponentLink2Description: Datasheet; ComponentLink2URL: http://www.holtek.com/pdf/consumer/3_18ev120.pdf; ComponentLink3Description: Package Specification; ComponentLink3URL: http://www.holtek.com/english/literature/package.pdf
footprint 20DIP (DIP, 20-Leads, Row Spacing 7.62mm, Pitch 2.54mm, Body 24.5x7.2mm)
pins: 1 A11 (in), 2 D12 (in), 3 D13 (in), 4 D14 (in), 5 D15 (in), 6 DOUT (out), 7 LED (out), 8 OSC2 (out), 9 OSC1 (in), 10 VSS (power), 11 A0 (in), 12 A1 (in), 13 A2 (in), 14 A3 (in), 15 A4 (in), 16 A6 (in), 17 A7 (in), 18 A8 (in), 19 A9 (in), 20 VDD (power)

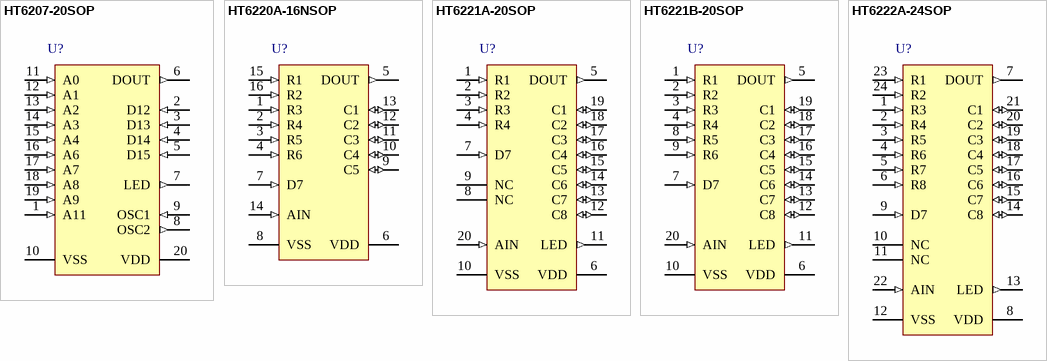
[diagram p1: symbols HT6207-20SOP to HT6222A-24SOP]

## HT6207-20SOP
designator U?
318 Series of Encoders, 20-Pin SOP; DatasheetVersion: Rev1.20, Feb-2009; PackageVersion: 25/05/2010; PackageReference: 20SOP; PackageDescription: 20-Pin Small Outline Package, 300mil Wide, 1.27 mm Pitch; Code_JEDEC: MS-013; Code_IPC: SOIC127P1030-20; ComponentLink1Description: Manufacturer URL; ComponentLink1URL: http://www.holtek.com/; ComponentLink2Description: Datasheet; ComponentLink2URL: http://www.holtek.com/pdf/consumer/3_18ev120.pdf; ComponentLink3Description: Package Specification; ComponentLink3URL: http://www.holtek.com/english/literature/package.pdf
footprint 20SOP_N (SOIC, 20-Leads, Body 12.8x7.1mm, Pitch 1.27mm, IPC Medium Density)
footprint 20SOP_L (SOIC, 20-Leads, Body 12.8x7.1mm, Pitch 1.27mm, IPC High Density)
footprint 20SOP_M (SOIC, 20-Leads, Body 12.8x7.1mm, Pitch 1.27mm, IPC Low Density)
pins: 1 A11 (in), 2 D12 (in), 3 D13 (in), 4 D14 (in), 5 D15 (in), 6 DOUT (out), 7 LED (out), 8 OSC2 (out), 9 OSC1 (in), 10 VSS (power), 11 A0 (in), 12 A1 (in), 13 A2 (in), 14 A3 (in), 15 A4 (in), 16 A6 (in), 17 A7 (in), 18 A8 (in), 19 A9 (in), 20 VDD (power)

## HT6220A-16NSOP
designator U?
Multi-Purpose Encoders, 16-Pin NSOP; DatasheetVersion: Rev1.20, Jun-2010; PackageVersion: 25/05/2010; PackageReference: 16NSOP; PackageDescription: 16-Pin Narrow Small Outline Package, 150mil Wide, 1.27 mm Pitch; ComponentLink1Description: Manufacturer URL; ComponentLink1URL: http://www.holtek.com/; ComponentLink2Description: Datasheet; ComponentLink2URL: http://www.holtek.com/pdf/consumer/622xAv120.pdf; ComponentLink3Description: Package Specification; ComponentLink3URL: http://www.holtek.com/english/literature/package.pdf
footprint 16NSOP_N (SOIC, 16-Leads, Body 10.01x3.9mm, Pitch 1.27mm, IPC Medium Density)
footprint 16NSOP_L (SOIC, 16-Leads, Body 10.01x3.9mm, Pitch 1.27mm, IPC High Density)
footprint 16NSOP_M (SOIC, 16-Leads, Body 10.01x3.9mm, Pitch 1.27mm, IPC Low Density)
pins: 1 R3 (in), 2 R4 (in), 3 R5 (in), 4 R6 (in), 5 DOUT (out), 6 VDD (power), 7 D7 (in), 8 VSS (power), 9 C5 (io), 10 C4 (io), 11 C3 (io), 12 C2 (io), 13 C1 (io), 14 AIN (in), 15 R1 (in), 16 R2 (in)

## HT6221A-20SOP
designator U?
Multi-Purpose Encoders, 20-Pin SOP; DatasheetVersion: Rev1.10, Jun-2010; PackageVersion: 25/05/2010; PackageReference: 20SOP; PackageDescription: 20-Pin Small Outline Package, 300mil Wide, 1.27 mm Pitch; Code_JEDEC: MS-013; Code_IPC: SOIC127P1030-20; ComponentLink1Description: Manufacturer URL; ComponentLink1URL: http://www.holtek.com/; ComponentLink2Description: Datasheet; ComponentLink2URL: http://www.holtek.com/pdf/consumer/622xAv120.pdf; ComponentLink3Description: Package Specification; ComponentLink3URL: http://www.holtek.com/english/literature/package.pdf
footprint 20SOP_N (SOIC, 20-Leads, Body 12.8x7.1mm, Pitch 1.27mm, IPC Medium Density)
footprint 20SOP_L (SOIC, 20-Leads, Body 12.8x7.1mm, Pitch 1.27mm, IPC High Density)
footprint 20SOP_M (SOIC, 20-Leads, Body 12.8x7.1mm, Pitch 1.27mm, IPC Low Density)
pins: 1 R1 (in), 2 R2 (in), 3 R3 (in), 4 R4 (in), 5 DOUT (out), 6 VDD (power), 7 D7 (in), 8 NC, 9 NC, 10 VSS (power), 11 LED (out), 12 C8 (io), 13 C7 (io), 14 C6 (io), 15 C5 (io), 16 C4 (io), 17 C3 (io), 18 C2 (io), 19 C1 (io), 20 AIN (in)

## HT6221B-20SOP
designator U?
Multi-Purpose Encoders, 20-Pin SOP; DatasheetVersion: Rev1.10, Jun-2010; PackageVersion: 25/05/2010; PackageReference: 20SOP; PackageDescription: 20-Pin Small Outline Package, 300mil Wide, 1.27 mm Pitch; Code_JEDEC: MS-013; Code_IPC: SOIC127P1030-20; ComponentLink1Description: Manufacturer URL; ComponentLink1URL: http://www.holtek.com/; ComponentLink2Description: Datasheet; ComponentLink2URL: http://www.holtek.com/pdf/consumer/622xAv120.pdf; ComponentLink3Description: Package Specification; ComponentLink3URL: http://www.holtek.com/english/literature/package.pdf
footprint 20SOP_N (SOIC, 20-Leads, Body 12.8x7.1mm, Pitch 1.27mm, IPC Medium Density)
footprint 20SOP_L (SOIC, 20-Leads, Body 12.8x7.1mm, Pitch 1.27mm, IPC High Density)
footprint 20SOP_M (SOIC, 20-Leads, Body 12.8x7.1mm, Pitch 1.27mm, IPC Low Density)
pins: 1 R1 (in), 2 R2 (in), 3 R3 (in), 4 R4 (in), 5 DOUT (out), 6 VDD (power), 7 D7 (in), 8 R5 (in), 9 R6 (in), 10 VSS (power), 11 LED (out), 12 C8 (io), 13 C7 (io), 14 C6 (io), 15 C5 (io), 16 C4 (io), 17 C3 (io), 18 C2 (io), 19 C1 (io), 20 AIN (in)

## HT6222A-24SOP
designator U?
Multi-Purpose Encoders, 24-Pin SOP; DatasheetVersion: Rev1.10, Jun-2010; PackageVersion: 25/05/2010; PackageReference: 24SOP; PackageDescription: 24-Pin Small Outline Package, 300mil Wide, 1.27 mm Pitch; Code_JEDEC: MS-013; ComponentLink1Description: Manufacturer URL; ComponentLink1URL: http://www.holtek.com/; ComponentLink2Description: Datasheet; ComponentLink2URL: http://www.holtek.com/pdf/consumer/622xAv120.pdf; ComponentLink3Description: Package Specification; ComponentLink3URL: http://www.holtek.com/english/literature/package.pdf
footprint 24SOP_N (SOIC, 24-Leads, Body 15.4x7.1mm, Pitch 1.27mm, IPC Medium Density)
footprint 24SOP_L (SOIC, 24-Leads, Body 15.4x7.1mm, Pitch 1.27mm, IPC High Density)
footprint 24SOP_M (SOIC, 24-Leads, Body 15.4x7.1mm, Pitch 1.27mm, IPC Low Density)
pins: 1 R3 (in), 2 R4 (in), 3 R5 (in), 4 R6 (in), 5 R7 (in), 6 R8 (in), 7 DOUT (out), 8 VDD (power), 9 D7 (in), 10 NC, 11 NC, 12 VSS (power), 13 LED (out), 14 C8 (io), 15 C7 (io), 16 C6 (io), 17 C5 (io), 18 C4 (io), 19 C3 (io), 20 C2 (io), 21 C1 (io), 22 AIN (in), 23 R1 (in), 24 R2 (in)